# Altium schematic symbol library S100 SCHLIB.SchLib: 18 symbols
Pins are listed as number, name and electrical type; pins without a type are passive.

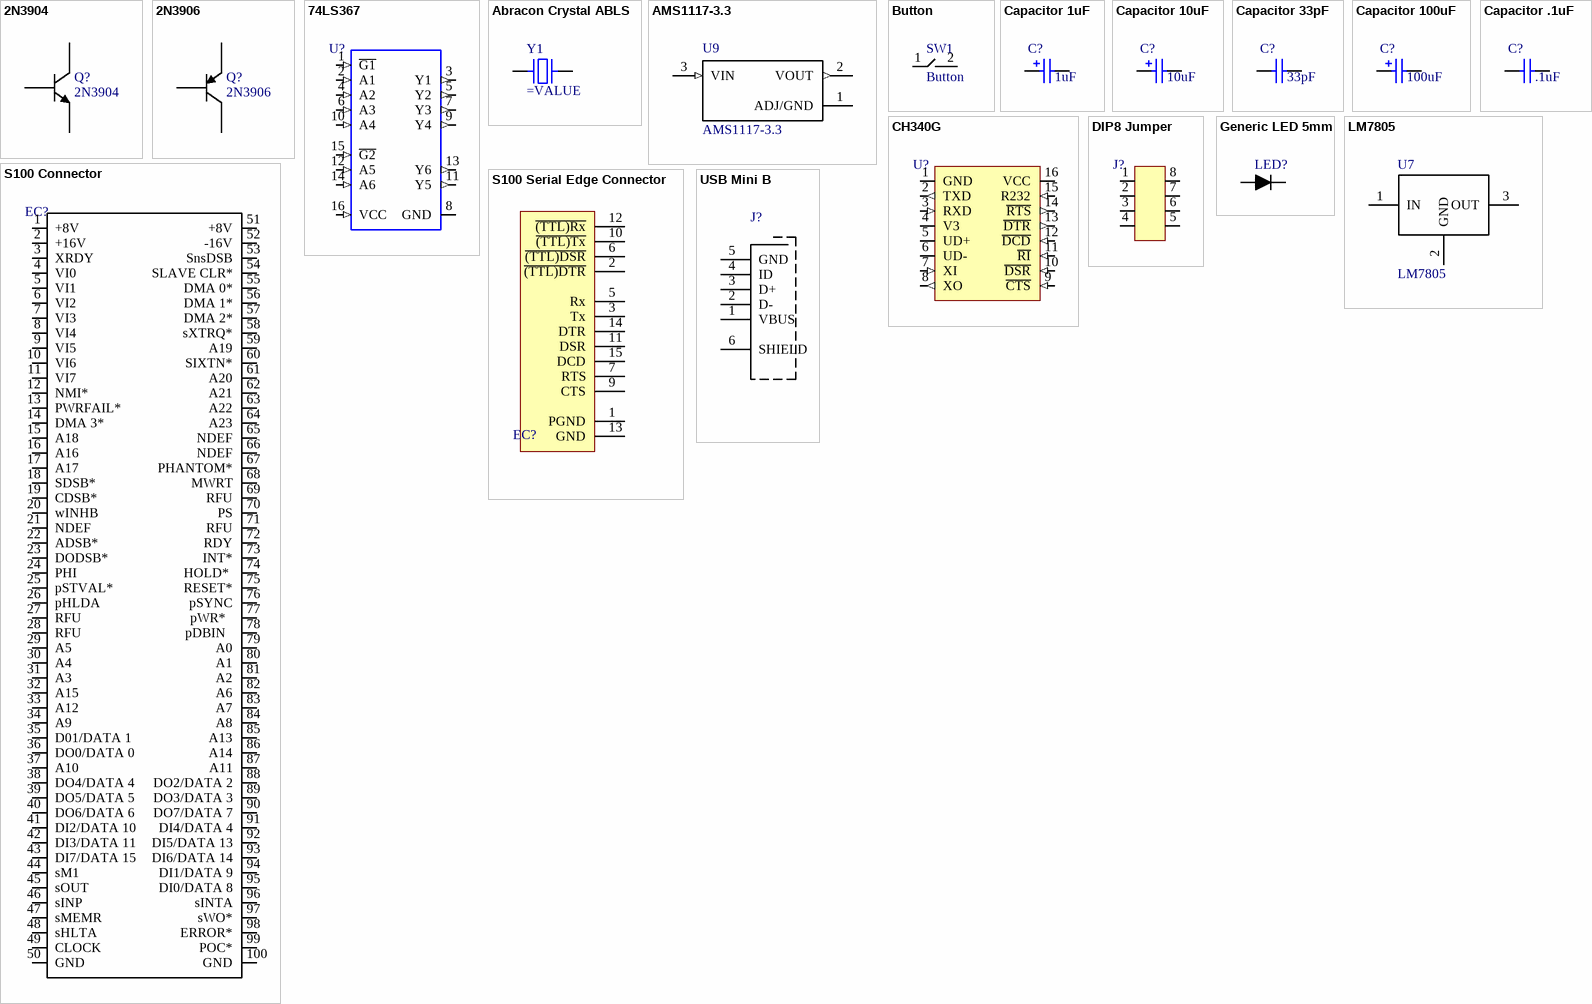
[diagram p0: symbols 2N3904 to USB Mini B]

## 2N3904
designator Q?
NPN General Purpose Amplifier; Published: 8-Jun-2000; LatestRevisionDate: 15-Jan-2003; LatestRevisionNote: PCB Footprint 'BCY-W3/D4.7' replaced; DatasheetVersion: 1997; PackageVersion: Sep-1998; PackageReference: TO-92A; Publisher: Altium Limited; PackageDescription: TO, Flat Index; 3 In-Line, Axial Leads; Body Dia. 4.5mm; Leads 0.51 x 0.48 mm (max); ComponentLink1Description: Manufacturer Link; ComponentLink1URL: http://www.fairchildsemi.com/; ComponentLink2Description: Datasheet; ComponentLink2URL: http://www.fairchildsemi.com/ds/2N%2F2N3904.pdf
footprint TO-92A (TO, Flat Index; 3 In-Line, Axial Leads; Body Dia. 4.5mm; Leads 0.51 x 0.48 mm (max))
simulation model 2N3904 (NPN)
signal-integrity model 2N3904
pins: 1 E, 2 B, 3 C

## 2N3906
designator Q?
2N3906 GP PNP; Published: 8-Jun-2000; LatestRevisionDate: 15-Jan-2003; LatestRevisionNote: PCB Footprint 'BCY-W3/D4.7' replaced; DatasheetVersion: 1997; PackageVersion: Sep-1998; PackageReference: TO-92A; Publisher: Altium Limited; PackageDescription: TO, Flat Index; 3 In-Line, Axial Leads; Body Dia. 4.5mm; Leads 0.51 x 0.48 mm (max); ComponentLink1Description: Manufacturer Link; ComponentLink1URL: http://www.fairchildsemi.com/; ComponentLink2Description: Datasheet; ComponentLink2URL: http://www.fairchildsemi.com/ds/2N%2F2N3906.pdf
simulation model 2N3906 (PNP)
signal-integrity model 2N3906
footprint TO-92A (TO, Flat Index; 3 In-Line, Axial Leads; Body Dia. 4.5mm; Leads 0.51 x 0.48 mm (max))
pins: 1 E, 2 B, 3 C

## 74LS367
designator U?
footprint DIP16
pins: 1 ~{G1} (in), 2 A1 (in), 3 Y1 (out), 4 A2 (in), 5 Y2 (out), 6 A3 (in), 7 Y3 (out), 8 GND (power), 9 Y4 (out), 10 A4 (in), 11 Y5 (out), 12 A5 (in), 13 Y6 (out), 14 A6 (in), 15 ~{G2} (in), 16 VCC (in)

## Abracon Crystal ABLS
designator Y1
SMT Crystal
footprint ABRACON ABLS (Crystal, 2-Leads, Body 4.70x11.40mm, Pitch 8.80mm, IPC Medium Density)
pins: 1, 2

## AMS1117-3.3
designator U9
1-Amp 3.3-Volt Low Drop Out Voltage Regulatator; MF: Advanced Monolithic Systems; SnapEDA_Link: https://www.snapeda.com/parts/AMS1117-3.3/Advanced%20Monolithic%20Systems/view-part/?ref=snap; Price: None; MP: AMS1117-3.3; Availability: Unavailable; Package: None; Value: *
footprint AMS1117-3.3-SOT23
footprint TO220
pins: 1 ADJ/GND (power), 2 VOUT (out), 3 VIN (in)

## Button
designator SW1
LCSC Push button SMD
footprint SMD_PUSHBUTTON_LCSC
pins: 1, 2

## Capacitor 1uF
designator C?, comment 1uF
Published: 8-Jun-2000; LatestRevisionDate: 17-Jul-2002; LatestRevisionNote: Re-released for DXP Platform.; PackageReference: RB7.6-15; Publisher: Altium Limited; PackageDescription: Polarized Capacitor (Radial); 2 Leads; Value: 1uF
simulation model CAP (Capacitor)
signal-integrity model Cap Pol
footprint Cap THT 5x11.5-2.5 (Capacitor 5mm Radius x 2.5mm lead spacing 11.5mm Height)
pins: 1, 2
1 alternate drawing of the same symbol

## Capacitor 10uF
designator C?  value 10uF
Published: 8-Jun-2000; LatestRevisionDate: 17-Jul-2002; LatestRevisionNote: Re-released for DXP Platform.; PackageReference: RB7.6-15; Publisher: Altium Limited; PackageDescription: Polarized Capacitor (Radial); 2 Leads
simulation model CAP (Capacitor)
signal-integrity model Cap Pol
footprint Cap THT 5x11.5-2.5 (Capacitor 5mm Radius x 2.5mm lead spacing 11.5mm Height)
pins: 1, 2
1 alternate drawing of the same symbol

## Capacitor 33pF
designator C?  value 33pF
Published: 8-Jun-2000; LatestRevisionDate: 17-Jul-2002; LatestRevisionNote: Re-released for DXP Platform.; PackageReference: RB7.6-15; Publisher: Altium Limited; PackageDescription: Polarized Capacitor (Radial); 2 Leads
simulation model CAP (Capacitor)
signal-integrity model Cap Pol
footprint Cap THT 2.5-2-4 Ceramic
pins: 1, 2
1 alternate drawing of the same symbol

## Capacitor 100uF
designator C?  value 100uF
Published: 8-Jun-2000; LatestRevisionDate: 17-Jul-2002; LatestRevisionNote: Re-released for DXP Platform.; PackageReference: RB7.6-15; Publisher: Altium Limited; PackageDescription: Polarized Capacitor (Radial); 2 Leads
simulation model CAP (Capacitor)
signal-integrity model Cap Pol
footprint CAP THT 2.5-6.5-12
pins: 1, 2
1 alternate drawing of the same symbol

## Capacitor .1uF
designator C?  value .1uF
Published: 8-Jun-2000; LatestRevisionDate: 17-Jul-2002; LatestRevisionNote: Re-released for DXP Platform.; PackageReference: RB7.6-15; Publisher: Altium Limited; PackageDescription: Polarized Capacitor (Radial); 2 Leads
simulation model CAP (Capacitor)
signal-integrity model Cap Pol
footprint CAP THT 2.5x5x5
pins: 1, 2
1 alternate drawing of the same symbol

## CH340G
designator U?
footprint SOIC-175-16 (SOIC, 16-Leads, Body 9.90x3.90mm, Pitch 1.27mm, IPC Low Density)
pins: 1 GND (power), 2 TXD (out), 3 RXD (in), 4 V3 (power), 5 UD+ (io), 6 UD- (io), 7 XI (in), 8 XO (out), 9 ~{CTS} (in), 10 ~{DSR} (in), 11 ~{RI} (in), 12 ~{DCD} (in), 13 ~{DTR} (out), 14 ~{RTS} (out), 15 R232 (in), 16 VCC (power)

## DIP8 Jumper
designator J?
footprint DIP8
pins: 1, 2, 3, 4, 5, 6, 7, 8

## Generic LED 5mm
designator LED?
footprint LED 5mm THT
pins: 1 A, 2 K

## LM7805
designator U7
LM7805 Linear Voltage Regulator
footprint TO220
pins: 1 IN, 2 GND, 3 OUT

## S100 Connector
designator EC?
footprint S100
pins: 1 +8V, 2 +16V, 3 XRDY, 4 VI0, 5 VI1, 6 VI2, 7 VI3, 8 VI4, 9 VI5, 10 VI6, 11 VI7, 12 NMI*, 13 PWRFAIL*, 14 DMA 3*, 15 A18 , 16 A16  , 17 A17, 18 SDSB*, 19 CDSB*, 20 wINHB, 21 NDEF, 22 ADSB*, 23 DODSB*, 24 PHI, 25 pSTVAL*, 26 pHLDA, 27 RFU, 28 RFU, 29 A5, 30 A4, 31 A3, 32 A15, 33 A12, 34 A9, 35 D01/DATA 1, 36 DO0/DATA 0, 37 A10, 38 DO4/DATA 4, 39 DO5/DATA 5, 40 DO6/DATA 6, 41 DI2/DATA 10, 42 DI3/DATA 11, 43 DI7/DATA 15, 44 sM1, 45 sOUT, 46 sINP, 47 sMEMR, 48 sHLTA, 49 CLOCK , 50 GND, 51 +8V, 52 -16V, 53 SnsDSB, 54 SLAVE CLR*, 55 DMA 0*, 56 DMA 1*, 57 DMA 2*, 58 sXTRQ*, 59 A19, 60 SIXTN*, 61 A20, 62 A21, 63 A22, 64 A23, 65 NDEF, 66 NDEF, 67 PHANTOM*, 68 MWRT, 69 RFU, 70 PS, 71 RFU, 72 RDY, 73 INT*, 74 HOLD* , 75 RESET*, 76 pSYNC, 77 pWR*  , 78 pDBIN  , 79 A0, 80 A1, 81 A2, 82 A6, 83 A7, 84 A8, 85 A13, 86 A14, 87 A11, 88 DO2/DATA 2, 89 DO3/DATA 3, 90 DO7/DATA 7, 91 DI4/DATA 4, 92 DI5/DATA 13, 93 DI6/DATA 14, 94 DI1/DATA 9, 95 DI0/DATA 8, 96 sINTA, 97 sWO*, 98 ERROR*, 99 POC*, 100 GND

## S100 Serial Edge Connector
designator EC?
footprint E26 Edge Connector (26 Pin Edge Connector)
pins: 1 PGND, 2 ~{(TTL)DTR}, 3 Tx, 5 Rx, 6 ~{(TTL)DSR}, 7 RTS, 9 CTS, 10 ~{(TTL)Tx}, 11 DSR, 12 ~{(TTL)Rx}, 13 GND (power), 14 DTR, 15 DCD

## USB Mini B
designator J?
MINI USB A - 5POS Horizontal through hole; MF: Wurth Electronics; MP: 651005136521; Package: None; Price: 1.78 USD; Availability: Good; SnapEDA_Link: https://www.snapeda.com/symbols-footprints/651005136521/Wurth%20Electronics%20Inc/view-part/?ref=snap; Value: *
footprint USB Mini B
pins: 1 VBUS, 2 D-, 3 D+, 4 ID, 5 GND, 6 SHIELD